# Altium schematic symbol library WCAP-FTXH.SchLib: 45 symbols
Pins are listed as number, name and electrical type; pins without a type are passive.

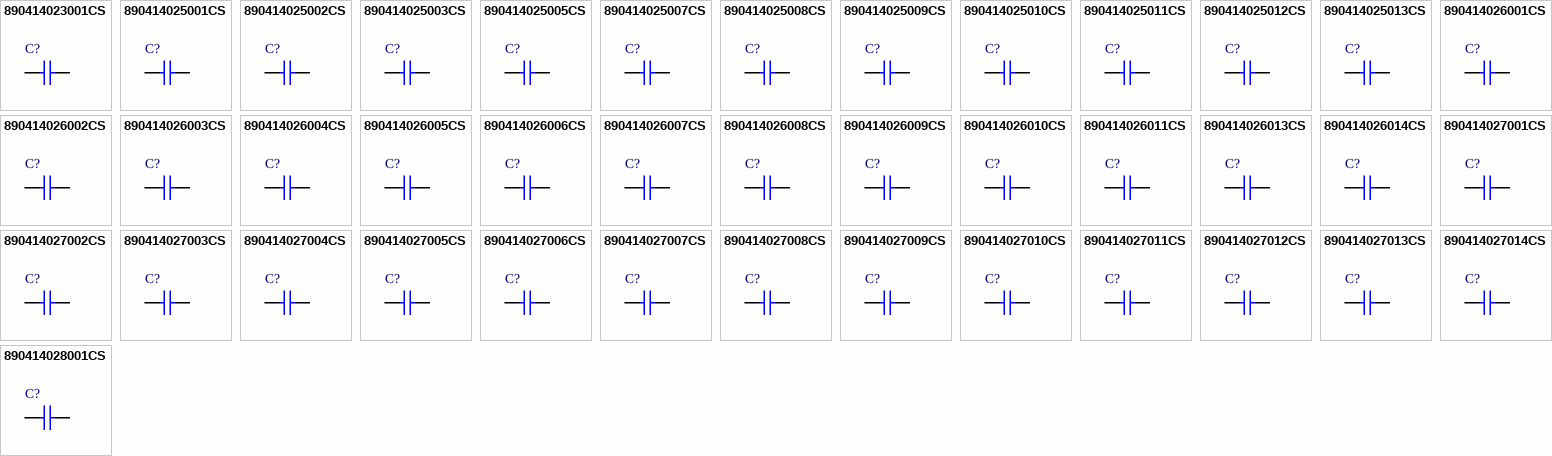
[diagram p0: symbols 890414023001CS to 890414028001CS]

## 890414023001CS
designator C?, comment 100nF  (value not drawn)
WCAP-FTXH THB X2-Capacitor, THT, L13 x W8 x H16mm, 100nF, 310V; Manufacturer Part Number: 890414023001CS; Manufacturer: Wurth Elektronik; Dissipation Factor @1kHz: 0.1%; Insulation Resistance: 25GΩ; Pitch: 10mm; Rate of Voltage Rise: 500V/μs; Safety Class: X2; Category: Film Capacitors; Match Code: WCAP-FTXH; ComponentLink1Description: Website Link; ComponentLink1URL: https://www.we-online.com/redexpert/article/890414023001CS?ad; ComponentLink2Description: Datasheet Link; ComponentLink2URL: https://www.we-online.com/redexpert/spec/890414023001CS?ad; Mount: Through Hole; Min Operating Temperature: -40°C; Max Operating Temperature: 110°C; Packaging: Carton; Length: 13mm; Width: 8mm; Height: 16mm; Application: Across the mains or in series with the mains; Capacitance: 100nF; Rated Voltage (AC): 310V
footprint WCAP-FTXH_L13W8H16
pins: 1, 2

## 890414025001CS
designator C?, comment 100nF  (value not drawn)
WCAP-FTXH THB X2-Capacitor, THT, L18 x W7.5 x H13.5mm, 100nF, 310V; Manufacturer Part Number: 890414025001CS; Manufacturer: Wurth Elektronik; Dissipation Factor @1kHz: 0.1%; Insulation Resistance: 25GΩ; Pitch: 15mm; Rate of Voltage Rise: 400V/μs; Safety Class: X2; Category: Film Capacitors; Match Code: WCAP-FTXH; ComponentLink1Description: Website Link; ComponentLink1URL: https://www.we-online.com/redexpert/article/890414025001CS?ad; ComponentLink2Description: Datasheet Link; ComponentLink2URL: https://www.we-online.com/redexpert/spec/890414025001CS?ad; Mount: Through Hole; Min Operating Temperature: -40°C; Max Operating Temperature: 110°C; Packaging: Carton; Length: 18mm; Width: 7.5mm; Height: 13.5mm; Application: Across the mains or in series with the mains; Capacitance: 100nF; Rated Voltage (AC): 310V
footprint WCAP-FTXH_L18W7.5H13.5
simulation model 890414025001CS_100nF
pins: 1, 2

## 890414025002CS
designator C?, comment 150nF  (value not drawn)
WCAP-FTXH THB X2-Capacitor, THT, L18 x W7.5 x H13.5mm, 150nF, 310V; Manufacturer Part Number: 890414025002CS; Manufacturer: Wurth Elektronik; Dissipation Factor @1kHz: 0.1%; Insulation Resistance: 25GΩ; Pitch: 15mm; Rate of Voltage Rise: 400V/μs; Safety Class: X2; Category: Film Capacitors; Match Code: WCAP-FTXH; ComponentLink1Description: Website Link; ComponentLink1URL: https://www.we-online.com/redexpert/article/890414025002CS?ad; ComponentLink2Description: Datasheet Link; ComponentLink2URL: https://www.we-online.com/redexpert/spec/890414025002CS?ad; Mount: Through Hole; Min Operating Temperature: -40°C; Max Operating Temperature: 110°C; Packaging: Carton; Length: 18mm; Width: 7.5mm; Height: 13.5mm; Application: Across the mains or in series with the mains; Capacitance: 150nF; Rated Voltage (AC): 310V
footprint WCAP-FTXH_L18W7.5H13.5
simulation model 890414025002CS_150nF
pins: 1, 2

## 890414025003CS
designator C?, comment 220nF  (value not drawn)
WCAP-FTXH THB X2-Capacitor, THT, L18 x W8.5 x H14.5mm, 220nF, 310V; Manufacturer Part Number: 890414025003CS; Manufacturer: Wurth Elektronik; Dissipation Factor @1kHz: 0.1%; Insulation Resistance: 25GΩ; Pitch: 15mm; Rate of Voltage Rise: 400V/μs; Safety Class: X2; Category: Film Capacitors; Match Code: WCAP-FTXH; ComponentLink1Description: Website Link; ComponentLink1URL: https://www.we-online.com/redexpert/article/890414025003CS?ad; ComponentLink2Description: Datasheet Link; ComponentLink2URL: https://www.we-online.com/redexpert/spec/890414025003CS?ad; Mount: Through Hole; Min Operating Temperature: -40°C; Max Operating Temperature: 110°C; Packaging: Carton; Length: 18mm; Width: 8.5mm; Height: 14.5mm; Application: Across the mains or in series with the mains; Capacitance: 220nF; Rated Voltage (AC): 310V
footprint WCAP-FTXH_L18W8.5H14.5
simulation model 890414025003CS_220nF
pins: 1, 2

## 890414025005CS
designator C?, comment 390nF  (value not drawn)
WCAP-FTXH THB X2-Capacitor, THT, L18 x W10 x H15.8mm, 390nF, 310V; Manufacturer Part Number: 890414025005CS; Manufacturer: Wurth Elektronik; Dissipation Factor @1kHz: 0.1%; Insulation Resistance: 19.23GΩ; Pitch: 15mm; Rate of Voltage Rise: 400V/μs; Safety Class: X2; Category: Film Capacitors; Match Code: WCAP-FTXH; ComponentLink1Description: Website Link; ComponentLink1URL: https://www.we-online.com/redexpert/article/890414025005CS?ad; ComponentLink2Description: Datasheet Link; ComponentLink2URL: https://www.we-online.com/redexpert/spec/890414025005CS?ad; Mount: Through Hole; Min Operating Temperature: -40°C; Max Operating Temperature: 110°C; Packaging: Carton; Length: 18mm; Width: 10mm; Height: 15.8mm; Application: Across the mains; Capacitance: 390nF; Rated Voltage (AC): 310V
footprint WCAP-FTXH_L18W10H15.8
simulation model 890414025005CS_390nF
pins: 1, 2

## 890414025007CS
designator C?, comment 33nF  (value not drawn)
WCAP-FTXH THB X2-Capacitor, THT, L18 x W7 x H12.5mm, 33nF, 310V; Manufacturer Part Number: 890414025007CS; Manufacturer: Wurth Elektronik; Dissipation Factor @1kHz: 0.1%; Insulation Resistance: 25GΩ; Pitch: 15mm; Rate of Voltage Rise: 400V/μs; Safety Class: X2; Category: Film Capacitors; Match Code: WCAP-FTXH; ComponentLink1Description: Website Link; ComponentLink1URL: https://www.we-online.com/redexpert/article/890414025007CS?ad; ComponentLink2Description: Datasheet Link; ComponentLink2URL: https://www.we-online.com/redexpert/spec/890414025007CS?ad; Mount: Through Hole; Min Operating Temperature: -40°C; Max Operating Temperature: 110°C; Packaging: Carton; Length: 18mm; Width: 7mm; Height: 12.5mm; Application: Across the mains or in series with the mains; Capacitance: 33nF; Rated Voltage (AC): 310V
footprint WCAP-FTXH_L18W7H12.5
simulation model 890414025007CS_33nF
pins: 1, 2

## 890414025008CS
designator C?, comment 120nF  (value not drawn)
WCAP-FTXH THB X2-Capacitor, THT, L18 x W7.5 x H13.5mm, 120nF, 310V; Manufacturer Part Number: 890414025008CS; Manufacturer: Wurth Elektronik; Dissipation Factor @1kHz: 0.1%; Insulation Resistance: 25GΩ; Pitch: 15mm; Rate of Voltage Rise: 400V/μs; Safety Class: X2; Category: Film Capacitors; Match Code: WCAP-FTXH; ComponentLink1Description: Website Link; ComponentLink1URL: https://www.we-online.com/redexpert/article/890414025008CS?ad; ComponentLink2Description: Datasheet Link; ComponentLink2URL: https://www.we-online.com/redexpert/spec/890414025008CS?ad; Mount: Through Hole; Min Operating Temperature: -40°C; Max Operating Temperature: 110°C; Packaging: Carton; Length: 18mm; Width: 7.5mm; Height: 13.5mm; Application: Across the mains or in series with the mains; Capacitance: 120nF; Rated Voltage (AC): 310V
footprint WCAP-FTXH_L18W7.5H13.5
simulation model 890414025008CS_120nF
pins: 1, 2

## 890414025009CS
designator C?, comment 270nF  (value not drawn)
WCAP-FTXH THB X2-Capacitor, THT, L18 x W8.5 x H14.5mm, 270nF, 310V; Manufacturer Part Number: 890414025009CS; Manufacturer: Wurth Elektronik; Dissipation Factor @1kHz: 0.1%; Insulation Resistance: 25GΩ; Pitch: 15mm; Rate of Voltage Rise: 400V/μs; Safety Class: X2; Category: Film Capacitors; Match Code: WCAP-FTXH; ComponentLink1Description: Website Link; ComponentLink1URL: https://www.we-online.com/redexpert/article/890414025009CS?ad; ComponentLink2Description: Datasheet Link; ComponentLink2URL: https://www.we-online.com/redexpert/spec/890414025009CS?ad; Mount: Through Hole; Min Operating Temperature: -40°C; Max Operating Temperature: 110°C; Packaging: Carton; Length: 18mm; Width: 8.5mm; Height: 14.5mm; Application: Across the mains; Capacitance: 270nF; Rated Voltage (AC): 310V
footprint WCAP-FTXH_L18W8.5H14.5
simulation model 890414025009CS_270nF
pins: 1, 2

## 890414025010CS
designator C?, comment 560nF  (value not drawn)
WCAP-FTXH THB X2-Capacitor, THT, L18 x W11.2 x H19.2mm, 560nF, 310V; Manufacturer Part Number: 890414025010CS; Manufacturer: Wurth Elektronik; Dissipation Factor @1kHz: 0.2%; Insulation Resistance: 13.39GΩ; Pitch: 15mm; Rate of Voltage Rise: 400V/μs; Safety Class: X2; Category: Film Capacitors; Match Code: WCAP-FTXH; ComponentLink1Description: Website Link; ComponentLink1URL: https://www.we-online.com/redexpert/article/890414025010CS?ad; ComponentLink2Description: Datasheet Link; ComponentLink2URL: https://www.we-online.com/redexpert/spec/890414025010CS?ad; Mount: Through Hole; Min Operating Temperature: -40°C; Max Operating Temperature: 110°C; Packaging: Carton; Length: 18mm; Width: 11.2mm; Height: 19.2mm; Application: Across the mains; Capacitance: 560nF; Rated Voltage (AC): 310V
footprint WCAP-FTXH_L18W11.2H19.2
simulation model 890414025010CS_560nF
pins: 1, 2

## 890414025011CS
designator C?, comment 330nF  (value not drawn)
WCAP-FTXH THB X2-Capacitor, THT, L18 x W10 x H18mm, 330nF, 310V; Manufacturer Part Number: 890414025011CS; Manufacturer: Wurth Elektronik; Dissipation Factor @1kHz: 0.1%; Insulation Resistance: 25GΩ; Pitch: 15mm; Rate of Voltage Rise: 400V/μs; Safety Class: X2; Category: Film Capacitors; Match Code: WCAP-FTXH; ComponentLink1Description: Website Link; ComponentLink1URL: https://www.we-online.com/redexpert/article/890414025011CS?ad; ComponentLink2Description: Datasheet Link; ComponentLink2URL: https://www.we-online.com/redexpert/spec/890414025011CS?ad; Mount: Through Hole; Min Operating Temperature: -40°C; Max Operating Temperature: 110°C; Packaging: Tray; Length: 18mm; Width: 10mm; Height: 18mm; Application: Across the mains or in series with the mains; Capacitance: 330nF; Rated Voltage (AC): 310V
footprint WCAP-FTXH_L18W10H18
simulation model 890414025011CS_330nF
pins: 1, 2

## 890414025012CS
designator C?, comment 470nF  (value not drawn)
WCAP-FTXH THB X2-Capacitor, THT, L18 x W12 x H20mm, 470nF, 310V; Manufacturer Part Number: 890414025012CS; Manufacturer: Wurth Elektronik; Dissipation Factor @1kHz: 0.2%; Insulation Resistance: 15.95GΩ; Pitch: 15mm; Rate of Voltage Rise: 400V/μs; Safety Class: X2; Category: Film Capacitors; Match Code: WCAP-FTXH; ComponentLink1Description: Website Link; ComponentLink1URL: https://www.we-online.com/redexpert/article/890414025012CS?ad; ComponentLink2Description: Datasheet Link; ComponentLink2URL: https://www.we-online.com/redexpert/spec/890414025012CS?ad; Mount: Through Hole; Min Operating Temperature: -40°C; Max Operating Temperature: 110°C; Packaging: Tray; Length: 18mm; Width: 12mm; Height: 20mm; Application: Across the mains or in series with the mains; Capacitance: 470nF; Rated Voltage (AC): 310V
footprint WCAP-FTXH_L18W12H20
simulation model 890414025012CS_470nF
pins: 1, 2

## 890414025013CS
designator C?, comment 270nF  (value not drawn)
WCAP-FTXH THB X2-Capacitor, THT, L18 x W11 x H18.5mm, 270nF, 310V; Manufacturer Part Number: 890414025013CS; Manufacturer: Wurth Elektronik; Dissipation Factor @1kHz: 0.1%; Insulation Resistance: 25GΩ; Pitch: 15mm; Rate of Voltage Rise: 400V/μs; Safety Class: X2; Category: Film Capacitors; Match Code: WCAP-FTXH; ComponentLink1Description: Website Link; ComponentLink1URL: https://www.we-online.com/redexpert/article/890414025013CS?ad; ComponentLink2Description: Datasheet Link; ComponentLink2URL: https://www.we-online.com/redexpert/spec/890414025013CS?ad; Mount: Through Hole; Min Operating Temperature: -40°C; Max Operating Temperature: 110°C; Packaging: Tray; Length: 18mm; Width: 11mm; Height: 18.5mm; Application: Across the mains or in series with the mains; Capacitance: 270nF; Rated Voltage (AC): 310V
footprint WCAP-FTXH_L18W11H18.5
simulation model 890414025013CS_270nF
pins: 1, 2

## 890414026001CS
designator C?, comment 330nF  (value not drawn)
WCAP-FTXH THB X2-Capacitor, THT, L26.5 x W8.5 x H17mm, 330nF, 310V; Manufacturer Part Number: 890414026001CS; Manufacturer: Wurth Elektronik; Dissipation Factor @1kHz: 0.1%; Insulation Resistance: 25GΩ; Pitch: 22.5mm; Rate of Voltage Rise: 200V/μs; Safety Class: X2; Category: Film Capacitors; Match Code: WCAP-FTXH; ComponentLink1Description: Website Link; ComponentLink1URL: https://www.we-online.com/redexpert/article/890414026001CS?ad; ComponentLink2Description: Datasheet Link; ComponentLink2URL: https://www.we-online.com/redexpert/spec/890414026001CS?ad; Mount: Through Hole; Min Operating Temperature: -40°C; Max Operating Temperature: 110°C; Packaging: Carton; Length: 26.5mm; Width: 8.5mm; Height: 17mm; Application: Across the mains or in series with the mains; Capacitance: 330nF; Rated Voltage (AC): 310V
footprint WCAP-FTXH_L26.5W8.5H17
simulation model 890414026001CS_330nF
pins: 1, 2

## 890414026002CS
designator C?, comment 390nF  (value not drawn)
WCAP-FTXH THB X2-Capacitor, THT, L26.5 x W8.5 x H17mm, 390nF, 310V; Manufacturer Part Number: 890414026002CS; Manufacturer: Wurth Elektronik; Dissipation Factor @1kHz: 0.1%; Insulation Resistance: 19.23GΩ; Pitch: 22.5mm; Rate of Voltage Rise: 200V/μs; Safety Class: X2; Category: Film Capacitors; Match Code: WCAP-FTXH; ComponentLink1Description: Website Link; ComponentLink1URL: https://www.we-online.com/redexpert/article/890414026002CS?ad; ComponentLink2Description: Datasheet Link; ComponentLink2URL: https://www.we-online.com/redexpert/spec/890414026002CS?ad; Mount: Through Hole; Min Operating Temperature: -40°C; Max Operating Temperature: 110°C; Packaging: Carton; Length: 26.5mm; Width: 8.5mm; Height: 17mm; Application: Across the mains or in series with the mains; Capacitance: 390nF; Rated Voltage (AC): 310V
footprint WCAP-FTXH_L26.5W8.5H17
simulation model 890414026002CS_390nF
pins: 1, 2

## 890414026003CS
designator C?, comment 470nF  (value not drawn)
WCAP-FTXH THB X2-Capacitor, THT, L26.5 x W8.5 x H17mm, 470nF, 310V; Manufacturer Part Number: 890414026003CS; Manufacturer: Wurth Elektronik; Dissipation Factor @1kHz: 0.2%; Insulation Resistance: 15.95GΩ; Pitch: 22.5mm; Rate of Voltage Rise: 200V/μs; Safety Class: X2; Category: Film Capacitors; Match Code: WCAP-FTXH; ComponentLink1Description: Website Link; ComponentLink1URL: https://www.we-online.com/redexpert/article/890414026003CS?ad; ComponentLink2Description: Datasheet Link; ComponentLink2URL: https://www.we-online.com/redexpert/spec/890414026003CS?ad; Mount: Through Hole; Min Operating Temperature: -40°C; Max Operating Temperature: 110°C; Packaging: Carton; Length: 26.5mm; Width: 8.5mm; Height: 17mm; Application: Across the mains or in series with the mains; Capacitance: 470nF; Rated Voltage (AC): 310V
footprint WCAP-FTXH_L26.5W8.5H17
simulation model 890414026003CS_470nF
pins: 1, 2

## 890414026004CS
designator C?, comment 560nF  (value not drawn)
WCAP-FTXH THB X2-Capacitor, THT, L26.5 x W10 x H19mm, 560nF, 310V; Manufacturer Part Number: 890414026004CS; Manufacturer: Wurth Elektronik; Dissipation Factor @1kHz: 0.2%; Insulation Resistance: 13.39GΩ; Pitch: 22.5mm; Rate of Voltage Rise: 200V/μs; Safety Class: X2; Category: Film Capacitors; Match Code: WCAP-FTXH; ComponentLink1Description: Website Link; ComponentLink1URL: https://www.we-online.com/redexpert/article/890414026004CS?ad; ComponentLink2Description: Datasheet Link; ComponentLink2URL: https://www.we-online.com/redexpert/spec/890414026004CS?ad; Mount: Through Hole; Min Operating Temperature: -40°C; Max Operating Temperature: 110°C; Packaging: Carton; Length: 26.5mm; Width: 10mm; Height: 19mm; Application: Across the mains or in series with the mains; Capacitance: 560nF; Rated Voltage (AC): 310V
footprint WCAP-FTXH_L26.5W10H19
simulation model 890414026004CS_560nF
pins: 1, 2

## 890414026005CS
designator C?, comment 680nF  (value not drawn)
WCAP-FTXH THB X2-Capacitor, THT, L26.5 x W10 x H19mm, 680nF, 310V; Manufacturer Part Number: 890414026005CS; Manufacturer: Wurth Elektronik; Dissipation Factor @1kHz: 0.2%; Insulation Resistance: 11.02GΩ; Pitch: 22.5mm; Rate of Voltage Rise: 200V/μs; Safety Class: X2; Category: Film Capacitors; Match Code: WCAP-FTXH; ComponentLink1Description: Website Link; ComponentLink1URL: https://www.we-online.com/redexpert/article/890414026005CS?ad; ComponentLink2Description: Datasheet Link; ComponentLink2URL: https://www.we-online.com/redexpert/spec/890414026005CS?ad; Mount: Through Hole; Min Operating Temperature: -40°C; Max Operating Temperature: 110°C; Packaging: Carton; Length: 26.5mm; Width: 10mm; Height: 19mm; Application: Across the mains or in series with the mains; Capacitance: 680nF; Rated Voltage (AC): 310V
footprint WCAP-FTXH_L26.5W10H19
simulation model 890414026005CS_680nF
pins: 1, 2

## 890414026006CS
designator C?, comment 820nF  (value not drawn)
WCAP-FTXH THB X2-Capacitor, THT, L26 x W11 x H20mm, 820nF, 310V; Manufacturer Part Number: 890414026006CS; Manufacturer: Wurth Elektronik; Dissipation Factor @1kHz: 0.2%; Insulation Resistance: 9.14GΩ; Pitch: 22.5mm; Rate of Voltage Rise: 200V/μs; Safety Class: X2; Category: Film Capacitors; Match Code: WCAP-FTXH; ComponentLink1Description: Website Link; ComponentLink1URL: https://www.we-online.com/redexpert/article/890414026006CS?ad; ComponentLink2Description: Datasheet Link; ComponentLink2URL: https://www.we-online.com/redexpert/spec/890414026006CS?ad; Mount: Through Hole; Min Operating Temperature: -40°C; Max Operating Temperature: 110°C; Packaging: Carton; Length: 26mm; Width: 11mm; Height: 20mm; Application: Across the mains or in series with the mains; Capacitance: 820nF; Rated Voltage (AC): 310V
footprint WCAP-FTXH_L26W11H20
simulation model 890414026006CS_820nF
pins: 1, 2

## 890414026007CS
designator C?, comment 1µF  (value not drawn)
WCAP-FTXH THB X2-Capacitor, THT, L26 x W11 x H20mm, 1µF, 310V; Manufacturer Part Number: 890414026007CS; Manufacturer: Wurth Elektronik; Dissipation Factor @1kHz: 0.2%; Insulation Resistance: 7.5GΩ; Pitch: 22.5mm; Rate of Voltage Rise: 200V/μs; Safety Class: X2; Category: Film Capacitors; Match Code: WCAP-FTXH; ComponentLink1Description: Website Link; ComponentLink1URL: https://www.we-online.com/redexpert/article/890414026007CS?ad; ComponentLink2Description: Datasheet Link; ComponentLink2URL: https://www.we-online.com/redexpert/spec/890414026007CS?ad; Mount: Through Hole; Min Operating Temperature: -40°C; Max Operating Temperature: 110°C; Packaging: Carton; Length: 26mm; Width: 11mm; Height: 20mm; Application: Across the mains; Capacitance: 1µF; Rated Voltage (AC): 310V
footprint WCAP-FTXH_L26W11H20
simulation model 890414026007CS_1uF
pins: 1, 2

## 890414026008CS
designator C?, comment 1.2µF  (value not drawn)
WCAP-FTXH THB X2-Capacitor, THT, L26.5 x W12 x H22mm, 1.2µF, 310V; Manufacturer Part Number: 890414026008CS; Manufacturer: Wurth Elektronik; Dissipation Factor @1kHz: 0.3%; Insulation Resistance: 6.25GΩ; Pitch: 22.5mm; Rate of Voltage Rise: 200V/μs; Safety Class: X2; Category: Film Capacitors; Match Code: WCAP-FTXH; ComponentLink1Description: Website Link; ComponentLink1URL: https://www.we-online.com/redexpert/article/890414026008CS?ad; ComponentLink2Description: Datasheet Link; ComponentLink2URL: https://www.we-online.com/redexpert/spec/890414026008CS?ad; Mount: Through Hole; Min Operating Temperature: -40°C; Max Operating Temperature: 110°C; Packaging: Carton; Length: 26.5mm; Width: 12mm; Height: 22mm; Application: Across the mains; Capacitance: 1.2µF; Rated Voltage (AC): 310V
footprint WCAP-FTXH_L26.5W12H22
simulation model 890414026008CS_1.2uF
pins: 1, 2

## 890414026009CS
designator C?, comment 1.5µF  (value not drawn)
WCAP-FTXH THB X2-Capacitor, THT, L26.5 x W14.5 x H24.5mm, 1.5µF, 310V; Manufacturer Part Number: 890414026009CS; Manufacturer: Wurth Elektronik; Dissipation Factor @1kHz: 0.3%; Insulation Resistance: 5GΩ; Pitch: 22.5mm; Rate of Voltage Rise: 200V/μs; Safety Class: X2; Category: Film Capacitors; Match Code: WCAP-FTXH; ComponentLink1Description: Website Link; ComponentLink1URL: https://www.we-online.com/redexpert/article/890414026009CS?ad; ComponentLink2Description: Datasheet Link; ComponentLink2URL: https://www.we-online.com/redexpert/spec/890414026009CS?ad; Mount: Through Hole; Min Operating Temperature: -40°C; Max Operating Temperature: 110°C; Packaging: Carton; Length: 26.5mm; Width: 14.5mm; Height: 24.5mm; Application: Across the mains; Capacitance: 1.5µF; Rated Voltage (AC): 310V
footprint WCAP-FTXH_L26.5W14.5H24.5
simulation model 890414026009CS_1.5uF
pins: 1, 2

## 890414026010CS
designator C?, comment 1.8µF  (value not drawn)
WCAP-FTXH THB X2-Capacitor, THT, L26.5 x W15.5 x H24.5mm, 1.8µF, 310V; Manufacturer Part Number: 890414026010CS; Manufacturer: Wurth Elektronik; Dissipation Factor @1kHz: 0.3%; Insulation Resistance: 4.16GΩ; Pitch: 22.5mm; Rate of Voltage Rise: 200V/μs; Safety Class: X2; Category: Film Capacitors; Match Code: WCAP-FTXH; ComponentLink1Description: Website Link; ComponentLink1URL: https://www.we-online.com/redexpert/article/890414026010CS?ad; ComponentLink2Description: Datasheet Link; ComponentLink2URL: https://www.we-online.com/redexpert/spec/890414026010CS?ad; Mount: Through Hole; Min Operating Temperature: -40°C; Max Operating Temperature: 110°C; Packaging: Carton; Length: 26.5mm; Width: 15.5mm; Height: 24.5mm; Application: Across the mains; Capacitance: 1.8µF; Rated Voltage (AC): 310V
footprint WCAP-FTXH_L26.5W15.5H24.5
simulation model 890414026010CS_1.8uF
pins: 1, 2

## 890414026011CS
designator C?, comment 2.2µF  (value not drawn)
WCAP-FTXH THB X2-Capacitor, THT, L26.5 x W15 x H29.5mm, 2.2µF, 310V; Manufacturer Part Number: 890414026011CS; Manufacturer: Wurth Elektronik; Dissipation Factor @1kHz: 0.3%; Insulation Resistance: 3.4GΩ; Pitch: 22.5mm; Rate of Voltage Rise: 200V/μs; Safety Class: X2; Category: Film Capacitors; Match Code: WCAP-FTXH; ComponentLink1Description: Website Link; ComponentLink1URL: https://www.we-online.com/redexpert/article/890414026011CS?ad; ComponentLink2Description: Datasheet Link; ComponentLink2URL: https://www.we-online.com/redexpert/spec/890414026011CS?ad; Mount: Through Hole; Min Operating Temperature: -40°C; Max Operating Temperature: 110°C; Packaging: Carton; Length: 26.5mm; Width: 15mm; Height: 29.5mm; Application: Across the mains; Capacitance: 2.2µF; Rated Voltage (AC): 310V
footprint WCAP-FTXH_L26.5W15H29.5
simulation model 890414026011CS_2.2uF
pins: 1, 2

## 890414026013CS
designator C?, comment 1.2μF  (value not drawn)
WCAP-FTXH THB X2-Capacitor, THT, L26.5 x W15 x H29.5mm, 1.2μF, 310V; Manufacturer Part Number: 890414026013CS; Manufacturer: Wurth Elektronik; Dissipation Factor @1kHz: 0.3%; Insulation Resistance: 6.25GΩ; Pitch: 22.5mm; Rate of Voltage Rise: 200V/μs; Safety Class: X2; Category: Film Capacitors; Match Code: WCAP-FTXH; ComponentLink1Description: Website Link; ComponentLink1URL: https://www.we-online.com/redexpert/article/890414026013CS?ad; ComponentLink2Description: Datasheet Link; ComponentLink2URL: https://www.we-online.com/redexpert/spec/890414026013CS?ad; Mount: Through Hole; Min Operating Temperature: -40°C; Max Operating Temperature: 110°C; Packaging: Tray; Length: 26.5mm; Width: 15mm; Height: 29.5mm; Application: Across the mains or in series with the mains; Capacitance: 1.2μF; Rated Voltage (AC): 310V
footprint WCAP-FTXH_L26.5W15H29.5
simulation model 890414026013CS_1.2uF
pins: 1, 2

## 890414026014CS
designator C?, comment 1μF  (value not drawn)
WCAP-FTXH THB X2-Capacitor, THT, L26 x W12.5 x H22mm, 1μF, 310V; Manufacturer Part Number: 890414026014CS; Manufacturer: Wurth Elektronik; Dissipation Factor @1kHz: 0.2%; Insulation Resistance: 7.5GΩ; Pitch: 22.5mm; Rate of Voltage Rise: 200V/μs; Safety Class: X2; Category: Film Capacitors; Match Code: WCAP-FTXH; ComponentLink1Description: Website Link; ComponentLink1URL: https://www.we-online.com/redexpert/article/890414026014CS?ad; ComponentLink2Description: Datasheet Link; ComponentLink2URL: https://www.we-online.com/redexpert/spec/890414026014CS?ad; Mount: Through Hole; Min Operating Temperature: -40°C; Max Operating Temperature: 110°C; Packaging: Tray; Length: 26mm; Width: 12.5mm; Height: 22mm; Application: Across the mains or in series with the mains; Capacitance: 1μF; Rated Voltage (AC): 310V
footprint WCAP-FTXH_L26W12.5H22
simulation model 890414026014CS_1uF
pins: 1, 2

## 890414027001CS
designator C?, comment 2.2µF  (value not drawn)
WCAP-FTXH THB X2-Capacitor, THT, L31 x W14 x H25mm, 2.2µF, 310V; Manufacturer Part Number: 890414027001CS; Manufacturer: Wurth Elektronik; Dissipation Factor @1kHz: 0.3%; Insulation Resistance: 3.4GΩ; Pitch: 27.5mm; Rate of Voltage Rise: 150V/μs; Safety Class: X2; Category: Film Capacitors; Match Code: WCAP-FTXH; ComponentLink1Description: Website Link; ComponentLink1URL: https://www.we-online.com/redexpert/article/890414027001CS?ad; ComponentLink2Description: Datasheet Link; ComponentLink2URL: https://www.we-online.com/redexpert/spec/890414027001CS?ad; Mount: Through Hole; Min Operating Temperature: -40°C; Max Operating Temperature: 110°C; Packaging: Carton; Length: 31mm; Width: 14mm; Height: 25mm; Application: Across the mains; Capacitance: 2.2µF; Rated Voltage (AC): 310V
footprint WCAP-FTXH_L31W14H25
simulation model 890414027001CS_2.2uF
pins: 1, 2

## 890414027002CS
designator C?, comment 3.3µF  (value not drawn)
WCAP-FTXH THB X2-Capacitor, THT, L32 x W16 x H30mm, 3.3µF, 310V; Manufacturer Part Number: 890414027002CS; Manufacturer: Wurth Elektronik; Dissipation Factor @1kHz: 0.3%; Insulation Resistance: 2.27GΩ; Pitch: 27.5mm; Rate of Voltage Rise: 150V/μs; Safety Class: X2; Category: Film Capacitors; Match Code: WCAP-FTXH; ComponentLink1Description: Website Link; ComponentLink1URL: https://www.we-online.com/redexpert/article/890414027002CS?ad; ComponentLink2Description: Datasheet Link; ComponentLink2URL: https://www.we-online.com/redexpert/spec/890414027002CS?ad; Mount: Through Hole; Min Operating Temperature: -40°C; Max Operating Temperature: 110°C; Packaging: Carton; Length: 32mm; Width: 16mm; Height: 30mm; Application: Across the mains; Capacitance: 3.3µF; Rated Voltage (AC): 310V
footprint WCAP-FTXH_L32W16H30
simulation model 890414027002CS_3.3uF
pins: 1, 2

## 890414027003CS
designator C?, comment 4.7µF  (value not drawn)
WCAP-FTXH THB X2-Capacitor, THT, L32 x W20 x H34mm, 4.7µF, 310V; Manufacturer Part Number: 890414027003CS; Manufacturer: Wurth Elektronik; Dissipation Factor @1kHz: 0.3%; Insulation Resistance: 1.59GΩ; Pitch: 27.5mm; Rate of Voltage Rise: 150V/μs; Safety Class: X2; Category: Film Capacitors; Match Code: WCAP-FTXH; ComponentLink1Description: Website Link; ComponentLink1URL: https://www.we-online.com/redexpert/article/890414027003CS?ad; ComponentLink2Description: Datasheet Link; ComponentLink2URL: https://www.we-online.com/redexpert/spec/890414027003CS?ad; Mount: Through Hole; Min Operating Temperature: -40°C; Max Operating Temperature: 110°C; Packaging: Carton; Length: 32mm; Width: 20mm; Height: 34mm; Application: Across the mains; Capacitance: 4.7µF; Rated Voltage (AC): 310V
footprint WCAP-FTXH_L32W20H34
simulation model 890414027003CS_4.7uF
pins: 1, 2

## 890414027004CS
designator C?, comment 560nF  (value not drawn)
WCAP-FTXH THB X2-Capacitor, THT, L32 x W9 x H18mm, 560nF, 310V; Manufacturer Part Number: 890414027004CS; Manufacturer: Wurth Elektronik; Dissipation Factor @1kHz: 0.2%; Insulation Resistance: 13.39GΩ; Pitch: 27.5mm; Rate of Voltage Rise: 150V/μs; Safety Class: X2; Category: Film Capacitors; Match Code: WCAP-FTXH; ComponentLink1Description: Website Link; ComponentLink1URL: https://www.we-online.com/redexpert/article/890414027004CS?ad; ComponentLink2Description: Datasheet Link; ComponentLink2URL: https://www.we-online.com/redexpert/spec/890414027004CS?ad; Mount: Through Hole; Min Operating Temperature: -40°C; Max Operating Temperature: 110°C; Packaging: Carton; Length: 32mm; Width: 9mm; Height: 18mm; Application: Across the mains or in series with the mains; Capacitance: 560nF; Rated Voltage (AC): 310V
footprint WCAP-FTXH_L32W9H18
simulation model 890414027004CS_560nF
pins: 1, 2

## 890414027005CS
designator C?, comment 680nF  (value not drawn)
WCAP-FTXH THB X2-Capacitor, THT, L31 x W11 x H20mm, 680nF, 310V; Manufacturer Part Number: 890414027005CS; Manufacturer: Wurth Elektronik; Dissipation Factor @1kHz: 0.2%; Insulation Resistance: 11.02GΩ; Pitch: 27.5mm; Rate of Voltage Rise: 150V/μs; Safety Class: X2; Category: Film Capacitors; Match Code: WCAP-FTXH; ComponentLink1Description: Website Link; ComponentLink1URL: https://www.we-online.com/redexpert/article/890414027005CS?ad; ComponentLink2Description: Datasheet Link; ComponentLink2URL: https://www.we-online.com/redexpert/spec/890414027005CS?ad; Mount: Through Hole; Min Operating Temperature: -40°C; Max Operating Temperature: 110°C; Packaging: Carton; Length: 31mm; Width: 11mm; Height: 20mm; Application: Across the mains or in series with the mains; Capacitance: 680nF; Rated Voltage (AC): 310V
footprint WCAP-FTXH_L31W11H20
simulation model 890414027005CS_680nF
pins: 1, 2

## 890414027006CS
designator C?, comment 820nF  (value not drawn)
WCAP-FTXH THB X2-Capacitor, THT, L31 x W11 x H20mm, 820nF, 310V; Manufacturer Part Number: 890414027006CS; Manufacturer: Wurth Elektronik; Dissipation Factor @1kHz: 0.2%; Insulation Resistance: 9.14GΩ; Pitch: 27.5mm; Rate of Voltage Rise: 150V/μs; Safety Class: X2; Category: Film Capacitors; Match Code: WCAP-FTXH; ComponentLink1Description: Website Link; ComponentLink1URL: https://www.we-online.com/redexpert/article/890414027006CS?ad; ComponentLink2Description: Datasheet Link; ComponentLink2URL: https://www.we-online.com/redexpert/spec/890414027006CS?ad; Mount: Through Hole; Min Operating Temperature: -40°C; Max Operating Temperature: 110°C; Packaging: Carton; Length: 31mm; Width: 11mm; Height: 20mm; Application: Across the mains or in series with the mains; Capacitance: 820nF; Rated Voltage (AC): 310V
footprint WCAP-FTXH_L31W11H20
simulation model 890414027006CS_820nF
pins: 1, 2

## 890414027007CS
designator C?, comment 1µF  (value not drawn)
WCAP-FTXH THB X2-Capacitor, THT, L31 x W11 x H20mm, 1µF, 310V; Manufacturer Part Number: 890414027007CS; Manufacturer: Wurth Elektronik; Dissipation Factor @1kHz: 0.2%; Insulation Resistance: 7.5GΩ; Pitch: 27.5mm; Rate of Voltage Rise: 150V/μs; Safety Class: X2; Category: Film Capacitors; Match Code: WCAP-FTXH; ComponentLink1Description: Website Link; ComponentLink1URL: https://www.we-online.com/redexpert/article/890414027007CS?ad; ComponentLink2Description: Datasheet Link; ComponentLink2URL: https://www.we-online.com/redexpert/spec/890414027007CS?ad; Mount: Through Hole; Min Operating Temperature: -40°C; Max Operating Temperature: 110°C; Packaging: Carton; Length: 31mm; Width: 11mm; Height: 20mm; Application: Across the mains; Capacitance: 1µF; Rated Voltage (AC): 310V
footprint WCAP-FTXH_L31W11H20
simulation model 890414027007CS_1uF
pins: 1, 2

## 890414027008CS
designator C?, comment 1.2µF  (value not drawn)
WCAP-FTXH THB X2-Capacitor, THT, L31 x W11 x H20mm, 1.2µF, 310V; Manufacturer Part Number: 890414027008CS; Manufacturer: Wurth Elektronik; Dissipation Factor @1kHz: 0.3%; Insulation Resistance: 6.25GΩ; Pitch: 27.5mm; Rate of Voltage Rise: 150V/μs; Safety Class: X2; Category: Film Capacitors; Match Code: WCAP-FTXH; ComponentLink1Description: Website Link; ComponentLink1URL: https://www.we-online.com/redexpert/article/890414027008CS?ad; ComponentLink2Description: Datasheet Link; ComponentLink2URL: https://www.we-online.com/redexpert/spec/890414027008CS?ad; Mount: Through Hole; Min Operating Temperature: -40°C; Max Operating Temperature: 110°C; Packaging: Carton; Length: 31mm; Width: 11mm; Height: 20mm; Application: Across the mains; Capacitance: 1.2µF; Rated Voltage (AC): 310V
footprint WCAP-FTXH_L31W11H20
simulation model 890414027008CS_1.2uF
pins: 1, 2

## 890414027009CS
designator C?, comment 1.5µF  (value not drawn)
WCAP-FTXH THB X2-Capacitor, THT, L32 x W13 x H22mm, 1.5µF, 310V; Manufacturer Part Number: 890414027009CS; Manufacturer: Wurth Elektronik; Dissipation Factor @1kHz: 0.3%; Insulation Resistance: 5GΩ; Pitch: 27.5mm; Rate of Voltage Rise: 150V/μs; Safety Class: X2; Category: Film Capacitors; Match Code: WCAP-FTXH; ComponentLink1Description: Website Link; ComponentLink1URL: https://www.we-online.com/redexpert/article/890414027009CS?ad; ComponentLink2Description: Datasheet Link; ComponentLink2URL: https://www.we-online.com/redexpert/spec/890414027009CS?ad; Mount: Through Hole; Min Operating Temperature: -40°C; Max Operating Temperature: 110°C; Packaging: Carton; Length: 32mm; Width: 13mm; Height: 22mm; Application: Across the mains; Capacitance: 1.5µF; Rated Voltage (AC): 310V
footprint WCAP-FTXH_L32W13H22
simulation model 890414027009CS_1.5uF
pins: 1, 2

## 890414027010CS
designator C?, comment 1.8µF  (value not drawn)
WCAP-FTXH THB X2-Capacitor, THT, L32 x W13 x H22mm, 1.8µF, 310V; Manufacturer Part Number: 890414027010CS; Manufacturer: Wurth Elektronik; Dissipation Factor @1kHz: 0.3%; Insulation Resistance: 4.16GΩ; Pitch: 27.5mm; Rate of Voltage Rise: 150V/μs; Safety Class: X2; Category: Film Capacitors; Match Code: WCAP-FTXH; ComponentLink1Description: Website Link; ComponentLink1URL: https://www.we-online.com/redexpert/article/890414027010CS?ad; ComponentLink2Description: Datasheet Link; ComponentLink2URL: https://www.we-online.com/redexpert/spec/890414027010CS?ad; Mount: Through Hole; Min Operating Temperature: -40°C; Max Operating Temperature: 110°C; Packaging: Carton; Length: 32mm; Width: 13mm; Height: 22mm; Application: Across the mains; Capacitance: 1.8µF; Rated Voltage (AC): 310V
footprint WCAP-FTXH_L32W13H22
simulation model 890414027010CS_1.8uF
pins: 1, 2

## 890414027011CS
designator C?, comment 2.2μF  (value not drawn)
WCAP-FTXH THB X2-Capacitor, THT, L32 x W16 x H30mm, 2.2μF, 310V; Manufacturer Part Number: 890414027011CS; Manufacturer: Wurth Elektronik; Dissipation Factor @1kHz: 0.3%; Insulation Resistance: 3.4GΩ; Pitch: 27.5mm; Rate of Voltage Rise: 150V/μs; Safety Class: X2; Category: Film Capacitors; Match Code: WCAP-FTXH; ComponentLink1Description: Website Link; ComponentLink1URL: https://www.we-online.com/redexpert/article/890414027011CS?ad; ComponentLink2Description: Datasheet Link; ComponentLink2URL: https://www.we-online.com/redexpert/spec/890414027011CS?ad; Mount: Through Hole; Min Operating Temperature: -40°C; Max Operating Temperature: 110°C; Packaging: Tray; Length: 32mm; Width: 16mm; Height: 30mm; Application: Across the mains or in series with the mains; Capacitance: 2.2μF; Rated Voltage (AC): 310V
footprint WCAP-FTXH_L32W16H30
simulation model 890414027011CS_2.2uF
pins: 1, 2

## 890414027012CS
designator C?, comment 1μF  (value not drawn)
WCAP-FTXH THB X2-Capacitor, THT, L32 x W13 x H22mm, 1μF, 310V; Manufacturer Part Number: 890414027012CS; Manufacturer: Wurth Elektronik; Dissipation Factor @1kHz: 0.2%; Insulation Resistance: 7.5GΩ; Pitch: 27.5mm; Rate of Voltage Rise: 150V/μs; Safety Class: X2; Category: Film Capacitors; Match Code: WCAP-FTXH; ComponentLink1Description: Website Link; ComponentLink1URL: https://www.we-online.com/redexpert/article/890414027012CS?ad; ComponentLink2Description: Datasheet Link; ComponentLink2URL: https://www.we-online.com/redexpert/spec/890414027012CS?ad; Mount: Through Hole; Min Operating Temperature: -40°C; Max Operating Temperature: 110°C; Packaging: Tray; Length: 32mm; Width: 13mm; Height: 22mm; Application: Across the mains or in series with the mains; Capacitance: 1μF; Rated Voltage (AC): 310V
footprint WCAP-FTXH_L32W13H22
simulation model 890414027012CS_1uF
pins: 1, 2

## 890414027013CS
designator C?, comment 1.2μF  (value not drawn)
WCAP-FTXH THB X2-Capacitor, THT, L32 x W12 x H21mm, 1.2μF, 310V; Manufacturer Part Number: 890414027013CS; Manufacturer: Wurth Elektronik; Dissipation Factor @1kHz: 0.3%; Insulation Resistance: 6.25GΩ; Pitch: 27.5mm; Rate of Voltage Rise: 150V/μs; Safety Class: X2; Category: Film Capacitors; Match Code: WCAP-FTXH; ComponentLink1Description: Website Link; ComponentLink1URL: https://www.we-online.com/redexpert/article/890414027013CS?ad; ComponentLink2Description: Datasheet Link; ComponentLink2URL: https://www.we-online.com/redexpert/spec/890414027013CS?ad; Mount: Through Hole; Min Operating Temperature: -40°C; Max Operating Temperature: 110°C; Packaging: Tray; Length: 32mm; Width: 12mm; Height: 21mm; Application: Across the mains or in series with the mains; Capacitance: 1.2μF; Rated Voltage (AC): 310V
footprint WCAP-FTXH_L32W12H21
simulation model 890414027013CS_1.2uF
pins: 1, 2

## 890414027014CS
designator C?, comment 1.8μF  (value not drawn)
WCAP-FTXH THB X2-Capacitor, THT, L32 x W14 x H28mm, 1.8μF, 310V; Manufacturer Part Number: 890414027014CS; Manufacturer: Wurth Elektronik; Dissipation Factor @1kHz: 0.3%; Insulation Resistance: 4.16GΩ; Pitch: 27.5mm; Rate of Voltage Rise: 150V/μs; Safety Class: X2; Category: Film Capacitors; Match Code: WCAP-FTXH; ComponentLink1Description: Website Link; ComponentLink1URL: https://www.we-online.com/redexpert/article/890414027014CS?ad; ComponentLink2Description: Datasheet Link; ComponentLink2URL: https://www.we-online.com/redexpert/spec/890414027014CS?ad; Mount: Through Hole; Min Operating Temperature: -40°C; Max Operating Temperature: 110°C; Packaging: Tray; Length: 32mm; Width: 14mm; Height: 28mm; Application: Across the mains or in series with the mains; Capacitance: 1.8μF; Rated Voltage (AC): 310V
footprint WCAP-FTXH_L32W14H28
simulation model 890414027014CS_1.8uF
pins: 1, 2

## 890414028001CS
designator C?, comment 4.7µF  (value not drawn)
WCAP-FTXH THB X2-Capacitor, THT, L41 x W17 x H31mm, 4.7µF, 310V; Manufacturer Part Number: 890414028001CS; Manufacturer: Wurth Elektronik; Dissipation Factor @1kHz: 0.3%; Insulation Resistance: 1.59GΩ; Pitch: 37.5mm; Rate of Voltage Rise: 100V/μs; Safety Class: X2; Category: Film Capacitors; Match Code: WCAP-FTXH; ComponentLink1Description: Website Link; ComponentLink1URL: https://www.we-online.com/redexpert/article/890414028001CS?ad; ComponentLink2Description: Datasheet Link; ComponentLink2URL: https://www.we-online.com/redexpert/spec/890414028001CS?ad; Mount: Through Hole; Min Operating Temperature: -40°C; Max Operating Temperature: 110°C; Packaging: Carton; Length: 41mm; Width: 17mm; Height: 31mm; Application: Across the mains; Capacitance: 4.7µF; Rated Voltage (AC): 310V
footprint WCAP-FTXH_L41W17H31
simulation model 890414028001CS_4.7uF
pins: 1, 2

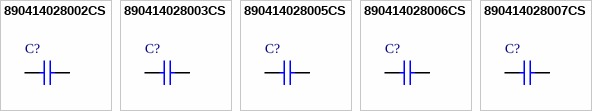
[diagram p1: symbols 890414028002CS to 890414028007CS]

## 890414028002CS
designator C?, comment 10µF  (value not drawn)
WCAP-FTXH THB X2-Capacitor, THT, L41 x W26 x H41mm, 10µF, 310V; Manufacturer Part Number: 890414028002CS; Manufacturer: Wurth Elektronik; Dissipation Factor @1kHz: 0.3%; Insulation Resistance: 750MΩ; Pitch: 37.5mm; Rate of Voltage Rise: 100V/μs; Safety Class: X2; Category: Film Capacitors; Match Code: WCAP-FTXH; ComponentLink1Description: Website Link; ComponentLink1URL: https://www.we-online.com/redexpert/article/890414028002CS?ad; ComponentLink2Description: Datasheet Link; ComponentLink2URL: https://www.we-online.com/redexpert/spec/890414028002CS?ad; Mount: Through Hole; Min Operating Temperature: -40°C; Max Operating Temperature: 110°C; Packaging: Carton; Length: 41mm; Width: 26mm; Height: 41mm; Application: Across the mains; Capacitance: 10µF; Rated Voltage (AC): 310V
footprint WCAP-FTXH_L41W26H41
simulation model 890414028002CS_10uF
pins: 1, 2

## 890414028003CS
designator C?, comment 6.8µF  (value not drawn)
WCAP-FTXH THB X2-Capacitor, THT, L41 x W20 x H35mm, 6.8µF, 310V; Manufacturer Part Number: 890414028003CS; Manufacturer: Wurth Elektronik; Dissipation Factor @1kHz: 0.3%; Insulation Resistance: 1.1GΩ; Pitch: 37.5mm; Rate of Voltage Rise: 100V/μs; Safety Class: X2; Category: Film Capacitors; Match Code: WCAP-FTXH; ComponentLink1Description: Website Link; ComponentLink1URL: https://www.we-online.com/redexpert/article/890414028003CS?ad; ComponentLink2Description: Datasheet Link; ComponentLink2URL: https://www.we-online.com/redexpert/spec/890414028003CS?ad; Mount: Through Hole; Min Operating Temperature: -40°C; Max Operating Temperature: 110°C; Packaging: Carton; Length: 41mm; Width: 20mm; Height: 35mm; Application: Across the mains; Capacitance: 6.8µF; Rated Voltage (AC): 310V
footprint WCAP-FTXH_L41W20H35
simulation model 890414028003CS_6.8uF
pins: 1, 2

## 890414028005CS
designator C?, comment 3.3μF  (value not drawn)
WCAP-FTXH THB X2-Capacitor, THT, L41 x W15 x H29mm, 3.3μF, 310V; Manufacturer Part Number: 890414028005CS; Manufacturer: Wurth Elektronik; Dissipation Factor @1kHz: 0.3%; Insulation Resistance: 2.27GΩ; Pitch: 37.5mm; Rate of Voltage Rise: 100V/μs; Safety Class: X2; Category: Film Capacitors; Match Code: WCAP-FTXH; ComponentLink1Description: Website Link; ComponentLink1URL: https://www.we-online.com/redexpert/article/890414028005CS?ad; ComponentLink2Description: Datasheet Link; ComponentLink2URL: https://www.we-online.com/redexpert/spec/890414028005CS?ad; Mount: Through Hole; Min Operating Temperature: -40°C; Max Operating Temperature: 110°C; Packaging: Tray; Length: 41mm; Width: 15mm; Height: 29mm; Application: Across the mains or in series with the mains; Capacitance: 3.3μF; Rated Voltage (AC): 310V
footprint WCAP-FTXH_L41W15H29
simulation model 890414028005CS_3.3uF
pins: 1, 2

## 890414028006CS
designator C?, comment 4.7μF  (value not drawn)
WCAP-FTXH THB X2-Capacitor, THT, L41 x W20 x H35mm, 4.7μF, 310V; Manufacturer Part Number: 890414028006CS; Manufacturer: Wurth Elektronik; Dissipation Factor @1kHz: 0.3%; Insulation Resistance: 1.59GΩ; Pitch: 37.5mm; Rate of Voltage Rise: 100V/μs; Safety Class: X2; Category: Film Capacitors; Match Code: WCAP-FTXH; ComponentLink1Description: Website Link; ComponentLink1URL: https://www.we-online.com/redexpert/article/890414028006CS?ad; ComponentLink2Description: Datasheet Link; ComponentLink2URL: https://www.we-online.com/redexpert/spec/890414028006CS?ad; Mount: Through Hole; Min Operating Temperature: -40°C; Max Operating Temperature: 110°C; Packaging: Tray; Length: 41mm; Width: 20mm; Height: 35mm; Application: Across the mains or in series with the mains; Capacitance: 4.7μF; Rated Voltage (AC): 310V
footprint WCAP-FTXH_L41W20H35
simulation model 890414028006CS_4.7uF
pins: 1, 2

## 890414028007CS
designator C?, comment 10μF  (value not drawn)
WCAP-FTXH THB X2-Capacitor, THT, L42 x W30 x H45mm, 10μF, 310V; Manufacturer Part Number: 890414028007CS; Manufacturer: Wurth Elektronik; Dissipation Factor @1kHz: 0.3%; Insulation Resistance: 750MΩ; Pitch: 37.5mm; Rate of Voltage Rise: 100V/μs; Safety Class: X2; Category: Film Capacitors; Match Code: WCAP-FTXH; ComponentLink1Description: Website Link; ComponentLink1URL: https://www.we-online.com/redexpert/article/890414028007CS?ad; ComponentLink2Description: Datasheet Link; ComponentLink2URL: https://www.we-online.com/redexpert/spec/890414028007CS?ad; Mount: Through Hole; Min Operating Temperature: -40°C; Max Operating Temperature: 110°C; Packaging: Tray; Length: 42mm; Width: 30mm; Height: 45mm; Application: Across the mains or in series with the mains; Capacitance: 10μF; Rated Voltage (AC): 310V
footprint WCAP-FTXH_L42W30H45
simulation model 890414028007CS_10uF
pins: 1, 2